# Altium schematic symbol library LQ-TC264-SYSVC封装.SchLib: 1 symbol
Pins are listed as number, name and electrical type; pins without a type are passive.

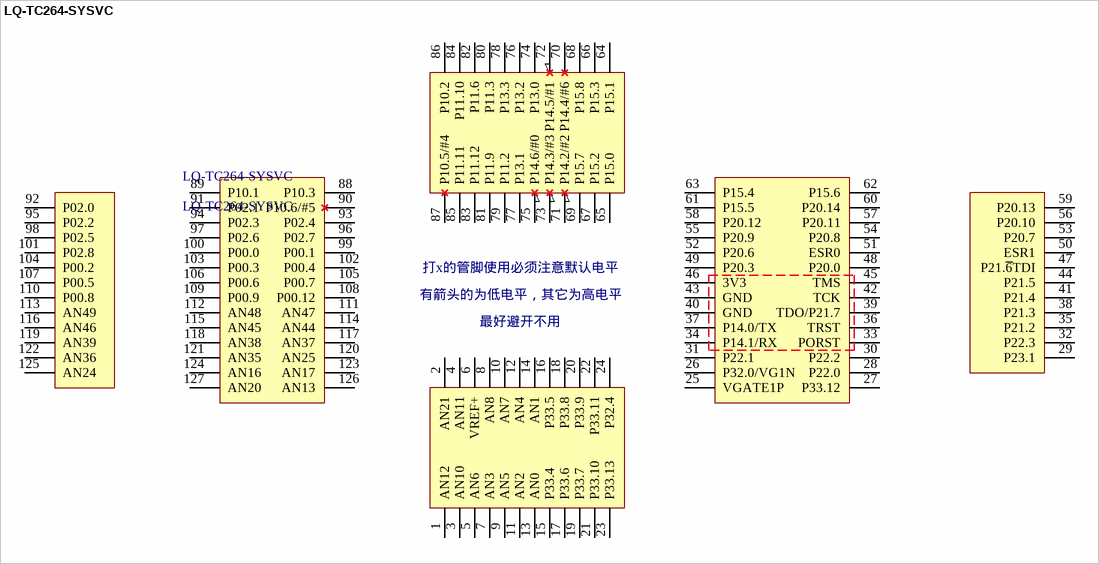
[diagram p0: symbol LQ-TC264-SYSVC]

## LQ-TC264-SYSVC
designator LQ-TC264-SYSVC
footprint LQ-TC264-SYSVC (单片机核心板封装库)
footprint LQ-TC264-SYSVC-S (单片机核心板封装库)
pins: 1 AN12, 2 AN21, 3 AN10, 4 AN11, 5 AN6, 6 VREF+, 7 AN3, 8 AN8, 9 AN5, 10 AN7, 11 AN2, 12 AN4, 13 AN0, 14 AN1, 15 P33.4, 16 P33.5, 17 P33.6, 18 P33.8, 19 P33.7, 20 P33.9, 21 P33.10, 22 P33.11, 23 P33.13, 24 P32.4, 25 VGATE1P, 26 P32.0/VG1N, 27 P33.12, 28 P22.0, 29 P23.1, 30 P22.2, 31 P22.1, 32 P22.3, 33 PORST, 34 P14.1/RX, 35 P21.2, 36 TRST, 37 P14.0/TX, 38 P21.3, 39 TDO/P21.7, 40 GND, 41 P21.4, 42 TCK, 43 GND, 44 P21.5, 45 TMS, 46 3V3, 47 P21.~{6}TDI, 48 P20.0, 49 P20.3, 50 ESR1, 51 ESR0, 52 P20.6, 53 P20.7, 54 P20.8, 55 P20.9, 56 P20.10, 57 P20.11, 58 P20.12, 59 P20.13, 60 P20.14, 61 P15.5, 62 P15.6, 63 P15.4, 64 P15.1, 65 P15.0, 66 P15.3, 67 P15.2, 68 P15.8, 69 P15.7, 70 P14.4/#6, 71 P14.2/#2, 72 P14.5/#1, 73 P14.3/#3, 74 P13.0, 75 P14.6/#0, 76 P13.2, 77 P13.1, 78 P13.3, 79 P11.2, 80 P11.3, 81 P11.9, 82 P11.6, 83 P11.12, 84 P11.10, 85 P11.11, 86 P10.2, 87 P10.5/#4, 88 P10.3, 89 P10.1, 90 P10.6/#5, 91 P02.1, 92 P02.0, 93 P02.4, 94 P02.3, 95 P02.2, 96 P02.7, 97 P02.6, 98 P02.5, 99 P00.1, 100 P00.0, 101 P02.8, 102 P00.4, 103 P00.3, 104 P00.2, 105 P00.7, 106 P00.6, 107 P00.5, 108 P00.12, 109 P00.9, 110 P00.8, 111 AN47, 112 AN48, 113 AN49, 114 AN44, 115 AN45, 116 AN46, 117 AN37, 118 AN38, 119 AN39, 120 AN25, 121 AN35, 122 AN36, 123 AN17, 124 AN16, 125 AN24, 126 AN13, 127 AN20
text: 打x的管脚使用必须注意默认电平; 有箭头的为低电平，其它为高电平; 最好避开不用